# Altium schematic symbol library 2T746A9.SchLib: 1 symbol
Pins are listed as number, name and electrical type; pins without a type are passive.

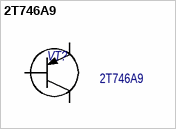
[diagram p0: symbol 2T746A9]

## 2T746A9
designator VT?  Наименование: 2Т746А9  (hidden comment: 2T746A9)
Silicon bipolar epitaxial planar p-n-p transistor; Назначение: Биполярный транзистор; Потребление: 0; ComponentLink1Description: DataSheet; ComponentLink1URL: https://group-kremny.ru/upload/iblock/3df/3dff91f9f0ce0f50e3d9196693a7dead.pdf
footprint KT-93 (SMD-0,5)
pins: 1 COLLECTOR, 2 EMITTER, 3 BASE